# Altium schematic symbol library Connectors_Ext.SchLib: 13 symbols
Pins are listed as number, name and electrical type; pins without a type are passive.

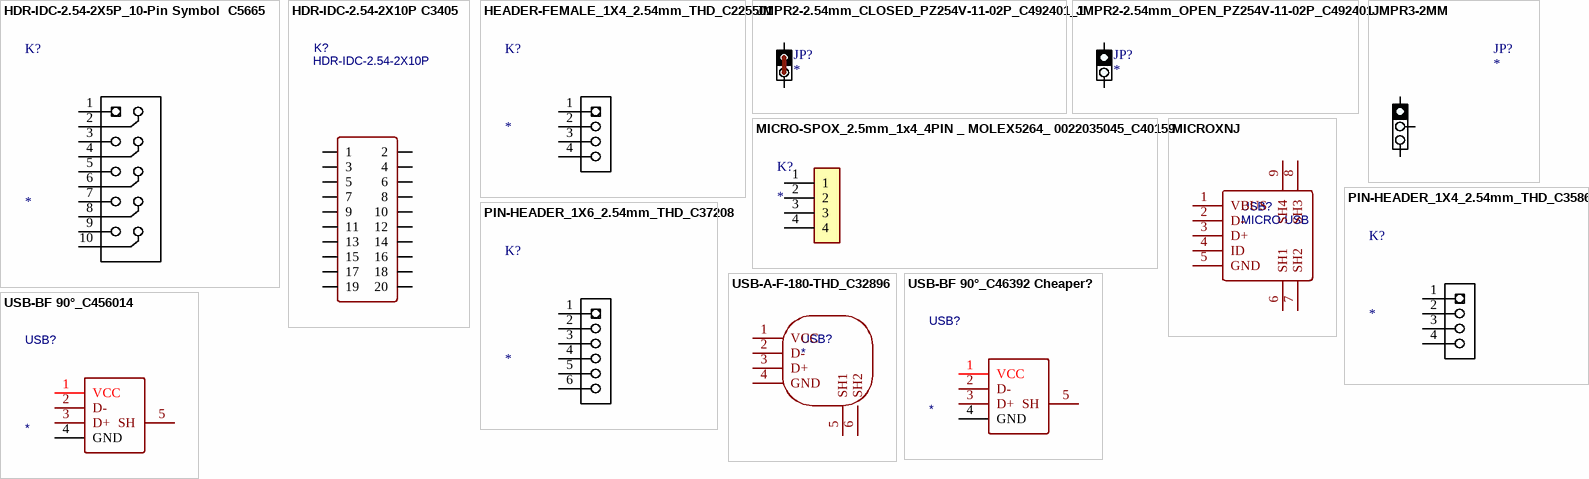
[diagram p0: symbols HDR-IDC-2.54-2X5P_10-Pin Symbol  C5665 to USB-BF 90°_C456014]

## HDR-IDC-2.54-2X5P_10-Pin Symbol  C5665
designator K?
Header 10 0.100"(2.54mm) 2 Through Hole IDC Connectors RoHS  C5665; BOM_Manufacturer: BOOMELE; BOM_Manufacturer Part: HDR-IDC-2.54-2X5P; Contributor: LCSC; PickAndPlace: THD; SMT Type: Extend; BOM_LCSC Assembly: Yes; BOM_Supplier: LCSC; BOM_Supplier Part: C5665; Color: Black; ComponentLink1URL: https://lcsc.com/product-detail/IDC-Connectors_BOOMELE-Boom-Precision-Elec-C5665_C5665.html; Datasheet: https://datasheet.lcsc.com/szlcsc/1810281612_BOOMELE-Boom-Precision-Elec-C5665_C5665.pdf; JLCPCB_Mount: THD; Package: 2X5P_0.100 2.54mm; Price: 0.0345
footprint IDC10-B
pins: 1, 2, 3, 4, 5, 6, 7, 8, 9, 10

## HDR-IDC-2.54-2X10P C3405
designator K?, comment HDR-IDC-2.54-2X10P
2x10 Pin IDC Header 2.54mm; BOM_Manufacturer: BOOMELE; BOM_Manufacturer Part: IDC Box 2.54mm 2X10P　Straight; SMT Type: Extend; Contributor: LCSC; PickAndPlace: THD; BOM_Supplier: LCSC; image: //image.lceda.cn/szlcsc/C3405.jpg; BOM_Supplier Part: C3405; BOM_LCSC Assembly: Yes; spicePre: P; spiceSymbolName: HDR-IDC-2.54-2X10P; Color: Black; Datasheet: https://datasheet.lcsc.com/szlcsc/1811151542_BOOMELE-Boom-Precision-Elec-C3405_C3405.pdf; JLCPCB_Mount: THD; Supplier: LC; ComponentLink1URL: https://lcsc.com/product-detail/IDC-Connectors_BOOMELE-Boom-Precision-Elec-C3405_C3405.html; Package: 2X10P_0.100 2.54mm
footprint IDC-TH_20P-P2.54-V-R2-C10-S2.54
pins: 1, 2, 3, 4, 5, 6, 7, 8, 9, 10, 11, 12, 13, 14, 15, 16, 17, 18, 19, 20

## HEADER-FEMALE_1X4_2.54mm_THD_C225501
designator K?
Female Header 4 1 Straight，180degrees 2.54mm P=2.54mm Pin Header & Female Header RoHS; BOM_Manufacturer: CJT(; BOM_Manufacturer Part: FEMALE-HEADER_1X4_2.54; Contributor: LCSC; PickAndPlace: THD; SMT Type: Extend; BOM_LCSC Assembly: Yes; BOM_Supplier: LCSC; BOM_Supplier Part: C225501; Color: Black; ComponentLink1URL: https://lcsc.com/product-detail/Pin-Header-Female-Header_CJT-Changjiang-Connectors-A2541HWV-4P_C225501.html; Datasheet: https://datasheet.lcsc.com/szlcsc/2010160505_CJT-Changjiang-Connectors-A2541HWV-4P_C225501.pdf; JLCPCB_Mount: C225501; Package: THD2.54mm 1x4; Price: 0.073
footprint HEADER-1X4_2.54_FEMALE
pins: 1, 2, 3, 4

## JMPR2-2.54mm_CLOSED_PZ254V-11-02P_C492401_1
designator JP?
JMPR2 CLOSED BY DEFAULT / Pin Header 2 1 Straight，180degrees 2.54mm Through Hole,P=2.54mm Pin Header & Female Header RoHS; BOM_Manufacturer: XFCN; BOM_Manufacturer Part: PIN-HEADER_1x2_2.54mm_MALE; PickAndPlace: THD; SMT Type: Extend; Price: 0.015; BOM_LCSC Assembly: Yes; BOM_Supplier: LCSC; BOM_Supplier Part: C492401; JLCPCB_Mount: THD; Package: THD2.54mm 1x2
footprint JMPR2-2.54MM-CLOSED
pins: 1, 2
2 alternate drawings of the same symbol

## JMPR2-2.54mm_OPEN_PZ254V-11-02P_C492401
designator JP?
JMPR2 OPEN BY DEFAULT / Pin Header 2 1 Straight，180degrees 2.54mm Through Hole,P=2.54mm Pin Header & Female Header RoHS; BOM_Manufacturer: XFCN; BOM_Manufacturer Part: PIN-HEADER_1x2_2.54mm_MALE; PickAndPlace: THD; SMT Type: Extend; Price: 0.015; BOM_LCSC Assembly: Yes; BOM_Supplier: LCSC; BOM_Supplier Part: C492401; JLCPCB_Mount: THD; Package: THD2.54mm 1x2
footprint JMPR2-2.54mm-open
pins: 1, 2
2 alternate drawings of the same symbol

## JMPR3-2MM
designator JP?
JMPR3-2MM; BOM_Manufacturer: XFCN; PickAndPlace: THD; Contributor: LCSC; SMT Type: Extend; Price: 0.01; BOM_LCSC Assembly: Yes; BOM_Supplier: LCSC; BOM_Supplier Part: C541857; Color: Black; ComponentLink1URL: https://lcsc.com/product-detail/Pin-Header-Female-Header_XFCN-PZ200V-11-03P_C541857.html; Datasheet: https://datasheet.lcsc.com/szlcsc/2005192137_XFCN-PZ200V-11-03P_C541857.pdf; JLCPCB_Mount: THD; Package: THD2.0mm
footprint JMPR3-2MM (3 PIN JUMPER 2MM PITCH)
pins: 1, 2, 3

## MICRO-SPOX_2.5mm_1x4_4PIN _ MOLEX5264_ 0022035045_C40159
designator K?
5264 Header Male Pin 0.098"(2.50mm) 4 Wire To Board / Wire To Wire   0022035045 MOLEX5264 Connector RoHS; BOM_Manufacturer: BOOMELE; BOM_Manufacturer Part: 5264-04A; MF: Molex; BOM_LCSC Assembly: NO; PickAndPlace: THD; Package: THD2.5mm; Digi-Key_Part_Number: WM18888-ND; EU_RoHS_Compliance: Compliant; Digi-Key_Purchase_URL: https://www.digikey.de/product-detail/de/molex/0022035045/WM18888-ND/403303; Value: *; LCSC: C40159; BOM_Supplier: LCSC; BOM_Supplier Part: C40159; Color: White; ComponentLink1URL: https://lcsc.com/product-detail/Wire-To-Board-Wire-To-Wire-Connector_BOOMELE-Boom-Precision-Elec-5264-04A_C40159.html; Datasheet: https://datasheet.lcsc.com/szlcsc/1811151531_BOOMELE-Boom-Precision-Elec-5264-04A_C40159.pdf; JLCPCB_Mount: N/A; Price: 0.016; SMT Type: N/A
footprint 22-03-5045_Molex_5267-04_corrected (Mini-Spox 2.5mm 4pin)
pins: 1 (power), 2, 3, 4 (power)

## MICROXNJ
designator USB?, comment MICRO USB
SMD Micro-USB Connectors - C404969; BOM_Manufacturer: SHOU HAN; BOM_Manufacturer Part: MicroXNJ; Contributor: LCSC; SMT Type: Extend; BOM_Supplier: LCSC; BOM_Supplier Part: C404969; spicePre: U; spiceSymbolName: MICROXNJ; BOM_JLCPCB SMD: Yes; BOM_LCSC Assembly: Yes; ComponentLink1URL: https://lcsc.com/product-detail/USB-Connectors_SHOU-HAN-MicroXNJ_C404969.html; Datasheet: https://datasheet.lcsc.com/szlcsc/1912111437_SHOU-HAN-MicroXNJ_C404969.pdf; JLCPCB_Mount: SMD; Package: SMD; Supplier: LC; SuppliersPartNumber: MicroXNJ; PickAndPlace: SMD
footprint MICRO-USB-SMD_MICROXNJ_3d
pins: 1 VBUS, 2 D-, 3 D+, 4 ID, 5 GND, 6 SH1, 7 SH2, 8 SH3, 9 SH4

## PIN-HEADER_1X4_2.54mm_THD_C358686
designator K?
Pin Header 4 1 Straight，180degrees 2.54mm Through Hole,P=2.54mm Pin Header & Female Header RoHS; BOM_Manufacturer: MINTRON; BOM_Manufacturer Part: MTP125-1104S1; Contributor: LCSC; PickAndPlace: THD; SMT Type: Extend; BOM_LCSC Assembly: Yes; BOM_Supplier: LCSC; BOM_Supplier Part: C358686; Color: Black; ComponentLink1URL: https://lcsc.com/product-detail/Pin-Header-Female-Header_MINTRON-MTP125-1104S1_C358686.html; Datasheet: https://datasheet.lcsc.com/szlcsc/1912111437_MINTRON-MTP125-1104S1_C358686.pdf; JLCPCB_Mount: THD; Package: THD2.54mm 1x4; Price: 0.014
footprint HEADER-1X4_2.54
pins: 1, 2, 3, 4

## PIN-HEADER_1X6_2.54mm_THD_C37208
designator K?
Pin Header 6 1 right-angle，180degrees 2.54mm 2.54mm 1x6 Pin Header & Female Header RoHS; BOM_Manufacturer: BOOMELE; BOM_Manufacturer Part: PIN-HEADER_1X6_C37208; Contributor: LCSC; PickAndPlace: THD; SMT Type: Extend; BOM_LCSC Assembly: Yes; BOM_Supplier: LCSC; BOM_Supplier Part: C37208; Color: Black; ComponentLink1URL: https://lcsc.com/product-detail/Pin-Header-Female-Header_BOOMELE-Boom-Precision-Elec-C37208_C37208.html; Datasheet: https://datasheet.lcsc.com/szlcsc/1810312320_BOOMELE-Boom-Precision-Elec-C37208_C37208.pdf; JLCPCB_Mount: THD; Package: THD2.54mm 1x6; Price: 0.019
footprint HEADER-1X6_2.54
pins: 1, 2, 3, 4, 5, 6

## USB-A-F-180-THD_C32896
designator USB?
BOM_Manufacturer: Boom Precision Elec; BOM_Manufacturer Part: USB-A-F-180-THD_C32896; Contributor: LCSC; SMT Type: Extend; BOM_Supplier: LCSC; BOM_Supplier Part: C32896; BOM_LCSC Assembly: Yes; spicePre: U; spiceSymbolName: 180THROUGH-HOLE; JLCPCB_Mount: THD
footprint USB-A-TH_USB-2.0-A-F-180-JCJ-H20.5
pins: 1 VCC, 2 D-, 3 D+, 4 GND, 5 SH1, 6 SH2

## USB-BF 90°_C46392 Cheaper?
designator USB?
USB-B Female, 90° - Through Hole USB Connectors RoHS C46392; BOM_Manufacturer: RoHS Jing Extension; BOM_Manufacturer Part: USB-BF 90°; Contributor: LCSC; Package Display: No; BOM_Supplier: LCSC; BOM_Supplier Part: C46392; spicePre: U; spiceSymbolName: BF 90°; Price: 0.078
footprint USB-B_TH_BF90
pins: 1 VCC, 2 D-, 3 D+, 4 GND, 5 SH

## USB-BF 90°_C456014
designator USB?
USB-B Female, 90° - Through Hole USB Connectors RoHS C456014; BOM_Manufacturer: SHOU HAN; BOM_Manufacturer Part: BF 90°; Contributor: LCSC; Package Display: No; BOM_Supplier: LCSC; BOM_Supplier Part: C456014; spicePre: U; spiceSymbolName: BF 90°; Price: 0,081
footprint USB-B_TH_BF90
pins: 1 VCC, 2 D-, 3 D+, 4 GND, 5 SH